# EAGLE library part .5K-AX-12PWB (library Seeed-OPL-2017-01-connector-edward)
320060017
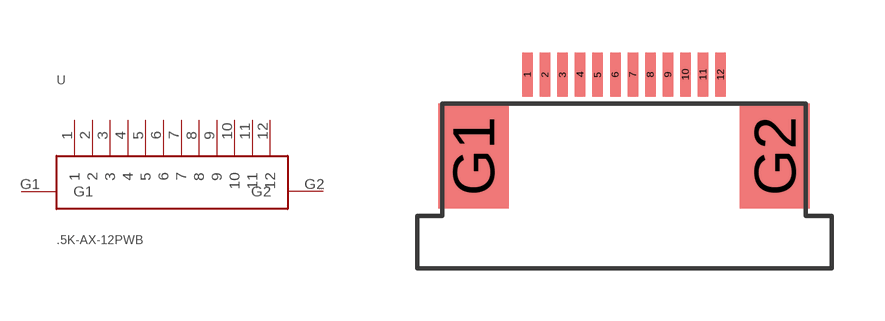
[diagram p1: symbol with the pads of .5K-AX-12PWB; footprint .5K-AX-12PWB]

Designator prefix -

## .5K-AX-12PWB  [.5K-AX-12PWB]
1  1
2  2
3  3
4  4
5  5
6  6
7  7
8  8
9  9
10  10
11  11
12  12
G1  G1
G2  G2

## Footprint .5K-AX-12PWB (pad centres in mm)
smd 0.3 x 1.25: 1 0.54,0.825; 2 1.04,0.825; 3 1.54,0.825; 4 2.04,0.825; 5 2.54,0.825; 6 3.04,0.825; 7 3.54,0.825; 8 4.04,0.825; 9 4.54,0.825; 10 5.04,0.825; 11 5.54,0.825; 12 6.04,0.825
smd 2 x 3: G1 -1,-1.5; G2 7.58,-1.5